# Altium footprint library My_Footprint_Lib.PcbLib: 54 footprints (part 1 of 4)
Each footprint in its own frame and in the unit in brackets; x right, y up, seen from the top. Pads: shape width x height; smd on the part's side, far side on the other; paste and mask are expansions set on the pad; w line width, h text height; cw(c..) or ccw(c..) is an arc to the next point about the centre after c.
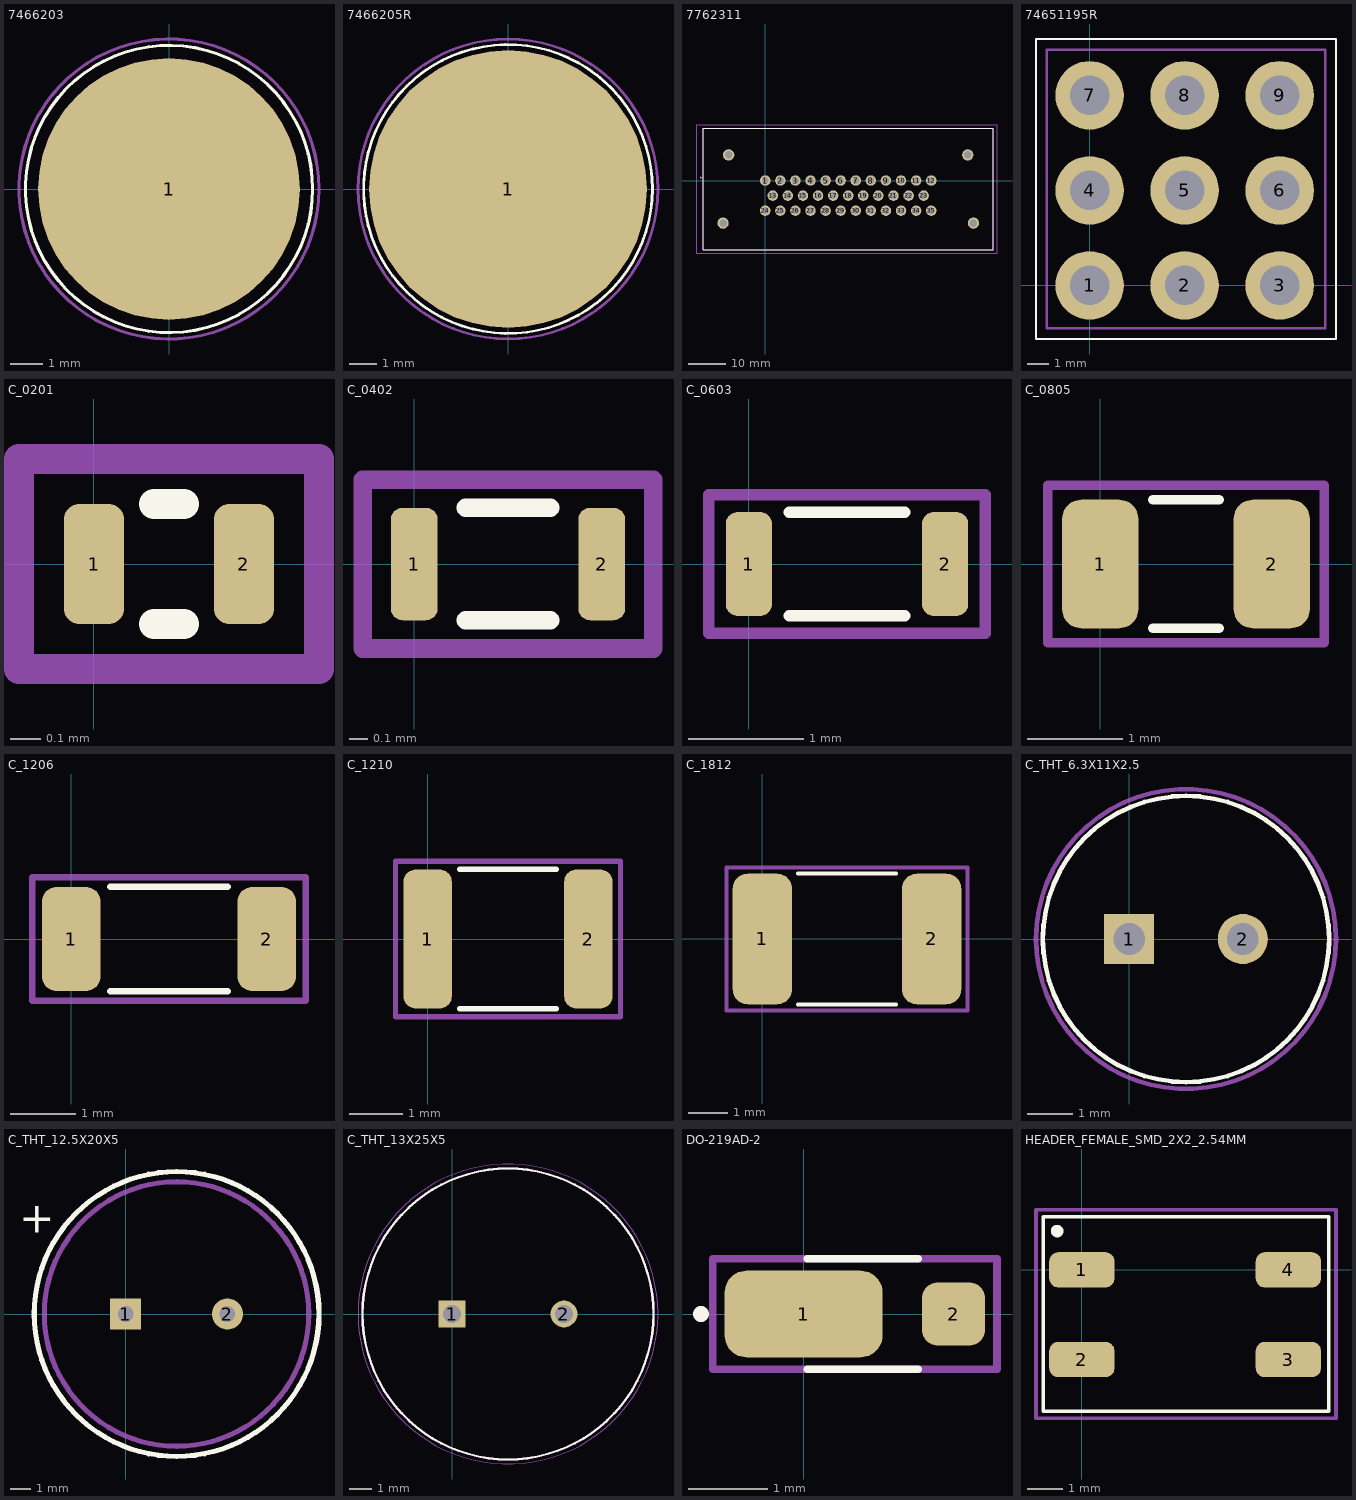
[diagram p0: the footprints below, top view; thin cyan lines are the x and y axes]

## 7466203 [mm]
pads (1):
  round 8.2 smd: 1(0,0)
Top Overlay:
  circle w0.1: c0,0 r4.5
Mechanical 15:
  circle w0.1: c0,0 r4.7
3D body "7466203.stp": height 7, standoff 0, extent -3.488,-3.5 3.488,3.5

## 7466205R [mm]
pads (1):
  round 10 smd: 1(0,0)
Top Overlay:
  circle w0.1: c0,0 r5.2
Mechanical 15:
  circle w0.1: c0,0 r5.4
3D body "7466205.stp": height 7, standoff 0, extent -4.497,-4.5 4.497,4.488

## 7762311 [mm]
pads (39):
  round 2.775 hole 1.85: 1(0,0) 2(4,0) 3(8,0) 4(12,0) 5(16,0) 6(20,0) 7(24,0) 8(28,0) 9(32,0) 10(36,0) 11(40,0) 12(44,0) 13(2,-4) 14(6,-4) 15(10,-4) 16(14,-4) 17(18,-4) 18(22,-4) 19(26,-4) 20(30,-4) 21(34,-4) 22(38,-4) 23(42,-4) 24(0,-8) 25(4,-8) 26(8,-8) 27(12,-8) 28(16,-8) 29(20,-8) 30(24,-8) 31(28,-8) 32(32,-8) 33(36,-8) 34(40,-8) 35(44,-8)
  round 3 hole 2: MH1(-9.7,6.8) MH2(-11.2,-11.3) MH3(55.2,-11.3) MH4(53.7,6.8)
Top Overlay:
  lines w0.1: -16.45,-18.3 -16.45,13.8 60.45,13.8 60.45,-18.3 -16.45,-18.3
  lines w0.3: -17.1,0.75 ccw(c-17.05,0.75) -17,0.75 ccw(c-17.05,0.75) -17.1,0.75
Mechanical 13:
  lines w0.2: -16.45,-18.3 -16.45,13.8 60.45,13.8 60.45,-18.3 -16.45,-18.3
Mechanical 15:
  lines w0.1: -18.1,-19.3 -18.1,14.8 61.45,14.8 61.45,-19.3 -18.1,-19.3
3D body "776231-1.stp": height 34.34, standoff -3.71, extent -16.6,-19.88 60.3,12.22

## 74651195R [mm] "Terminals M5-13mm 85A"
pads (9):
  round 3.2 hole 1.85: 1(0,0) 2(4.435,0) 3(8.87,0) 4(0,4.435) 5(4.435,4.435) 6(8.87,4.435) 7(0,8.87) 8(4.435,8.87) 9(8.87,8.87)
Top Overlay:
  lines w0.1: -2.5,-2.5 -2.5,11.5 11.5,11.5 11.5,-2.5 -2.5,-2.5
Mechanical 15:
  lines w0.1: -2,-2 -2,11 11,11 11,-2 -2,-2
3D body "74651195R.stp": height 10, standoff -3, extent -0.565,-0.575 9.435,9.425

## C_0201 [mm]
pads (2):
  rrect50% 0.2x0.4 smd: 1(0,0) 2(0.5,0)
Top Overlay:
  lines w0.1: 0.2,-0.2 0.3,-0.2 ; 0.2,0.2 0.3,0.2
Mechanical 15:
  lines w0.1: -0.25,-0.35 0.75,-0.35 0.75,0.35 -0.25,0.35 -0.25,-0.35
3D body "02013A100JAT2A.stp": height 0.33, standoff 0, extent -0.05,-0.15 0.55,0.15

## C_0402 [mm]
pads (2):
  rrect50% 0.25x0.6 smd: 1(0,0) 2(1,0)
Top Overlay:
  lines w0.1: 0.275,-0.3 0.725,-0.3 ; 0.275,0.3 0.725,0.3
Mechanical 15:
  lines w0.1: -0.275,-0.45 -0.275,0.45 1.275,0.45 1.275,-0.45 -0.275,-0.45
3D body "MBASU105SCG080CFNA01.stp": height 0.55, standoff 0, extent 0,-0.25 1,0.25

## C_0603 [mm]
pads (2):
  rrect50% 0.4x0.9 smd: 1(0,0) 2(1.7,0)
Top Overlay:
  lines w0.1: 0.35,-0.45 1.35,-0.45 ; 0.35,0.45 1.35,0.45
Mechanical 15:
  lines w0.1: -0.35,-0.6 -0.35,0.6 2.05,0.6 2.05,-0.6 -0.35,-0.6
3D body "GRM188C61C226ME01J.stp": height 0.9, standoff 0, extent 0.05,-0.4 1.65,0.4

## C_0805 [mm]
pads (2):
  rrect50% 0.8x1.35 smd: 1(0,0) 2(1.8,0)
Top Overlay:
  lines w0.1: 0.55,-0.675 1.25,-0.675 ; 0.55,0.675 1.25,0.675
Mechanical 15:
  lines w0.1: -0.55,-0.825 2.35,-0.825 2.35,0.825 -0.55,0.825 -0.55,-0.825
3D body "C0805C274K1RACTU.stp": height 1.4, standoff 0, extent -0.1,-0.625 1.9,0.625

## C_1206 [mm]
pads (2):
  rrect50% 0.9x1.6 smd: 1(0,0) 2(3,0)
Top Overlay:
  lines w0.1: 0.6,-0.8 2.4,-0.8 ; 0.6,0.8 2.4,0.8
Mechanical 15:
  lines w0.1: -0.6,-0.95 -0.6,0.95 3.6,0.95 3.6,-0.95 -0.6,-0.95
3D body "1206.stp": height 1.63, standoff 0, extent -0.09,-0.76 3.09,0.76

## C_1210 [mm]
pads (2):
  rrect50% 0.9x2.6 smd: 1(0,0) 2(3,0)
Top Overlay:
  lines w0.1: 0.6,-1.3 2.4,-1.3 ; 0.6,1.3 2.4,1.3
Mechanical 15:
  lines w0.1: -0.6,-1.45 3.6,-1.45 3.6,1.45 -0.6,1.45 -0.6,-1.45
3D body "12105E103MAT2A.stp": height 0.94, standoff 0, extent -0.15,-1.25 3.05,1.25

## C_1812 [mm]
pads (2):
  rrect50% 1.5x3.3 smd: 1(0,0) 2(4.275,0)
Top Overlay:
  lines w0.1: 0.9,-1.65 3.375,-1.65 ; 0.9,1.65 3.375,1.65
Mechanical 15:
  lines w0.1: -0.9,-1.8 -0.9,1.8 5.175,1.8 5.175,-1.8 -0.9,-1.8
3D body "1812Y1000105KET.stp": height 2.5, standoff 0, extent -0.125,-1.6 4.375,1.6

## C_THT_6.3X11X2.5 [mm]
pads (2):
  rect 1.1x1.1 hole 0.7: 1(0,0)
  round 1.1 hole 0.7: 2(2.5,0)
Top Overlay:
  circle w0.1: c1.25,0 r3.15
Mechanical 15:
  circle w0.1: c1.25,0 r3.3
3D body "ESK226M100AE3AA.stp": height 12.51, standoff -20, extent -2.145,-3.4 4.645,3.4

## C_THT_12.5X20X5 [mil] "Capacitor THT, P 5.00mm, D 12m,"
pads (2):
  rect 60x60 hole 30: 1(0,0)
  round 60 hole 30: 2(196.85,0)
Top Overlay:
  circle w10: c98.43,0 r275.59
  text "+" at -206.54,157.48 h60
Mechanical 15:
  circle w10: c98.43,0 r255.91
3D body "ECA-2AM221B.stp": height 866.14, standoff -393.7, extent -157.24,-255.91 354.09,255.66

## C_THT_13X25X5 [mm]
pads (2):
  rect 1.2x1.2 hole 0.8: 1(0,0)
  round 1.2 hole 0.8: 2(5,0)
Top Overlay:
  circle w0.1: c2.5,0 r6.5
Mechanical 13:
  circle w0.1: c2.5,0 r6.5
Mechanical 15:
  circle w0.05: c2.5,0 r6.7
3D body "ESK107M160AL4AA.stp": height 27.01, standoff -20, extent -4.227,-6.75 9.227,6.75

## DO-219AD-2 [mm]
pads (2):
  rrect50% 2x1.1 smd: 1(0,0)
  rrect50% 0.8x0.8 smd: 2(1.9,0)
Top Overlay:
  lines w0.1: 0.05,-0.7 1.45,-0.7 ; 0.05,0.7 1.45,0.7 ; -1.35,0 ccw(c-1.3,0) -1.25,0 ccw(c-1.3,0) -1.35,0
Mechanical 15:
  lines w0.1: -1.15,-0.7 -1.15,0.7 2.45,0.7 2.45,-0.7 -1.15,-0.7
3D body "V1PM15-M3_H.stp": height 0.68, standoff 0, extent -0.6,-0.648 1.9,0.652

## HEADER_FEMALE_SMD_2X2_2.54MM [mm]
pads (4):
  rrect50% 1.85x1 smd: 1(0,0) 2(0,-2.54) 3(5.85,-2.54) 4(5.85,0)
Top Overlay:
  circle w0.254: c-0.7,1.1 r0.05
  lines w0.1: -1.1,-4 7,-4 7,1.5 -1.1,1.5 -1.1,-4
Mechanical 15:
  lines w0.1: -1.3,-4.2 7.2,-4.2 7.2,1.7 -1.3,1.7 -1.3,-4.2
3D body "M20-7870246.stp": height 7.5, standoff 0, extent -0.318,-3.89 6.178,1.39